# Altium schematic symbol library PCB-Tester-Board-V1.SCHLIB: 111 symbols (part 3 of 3)
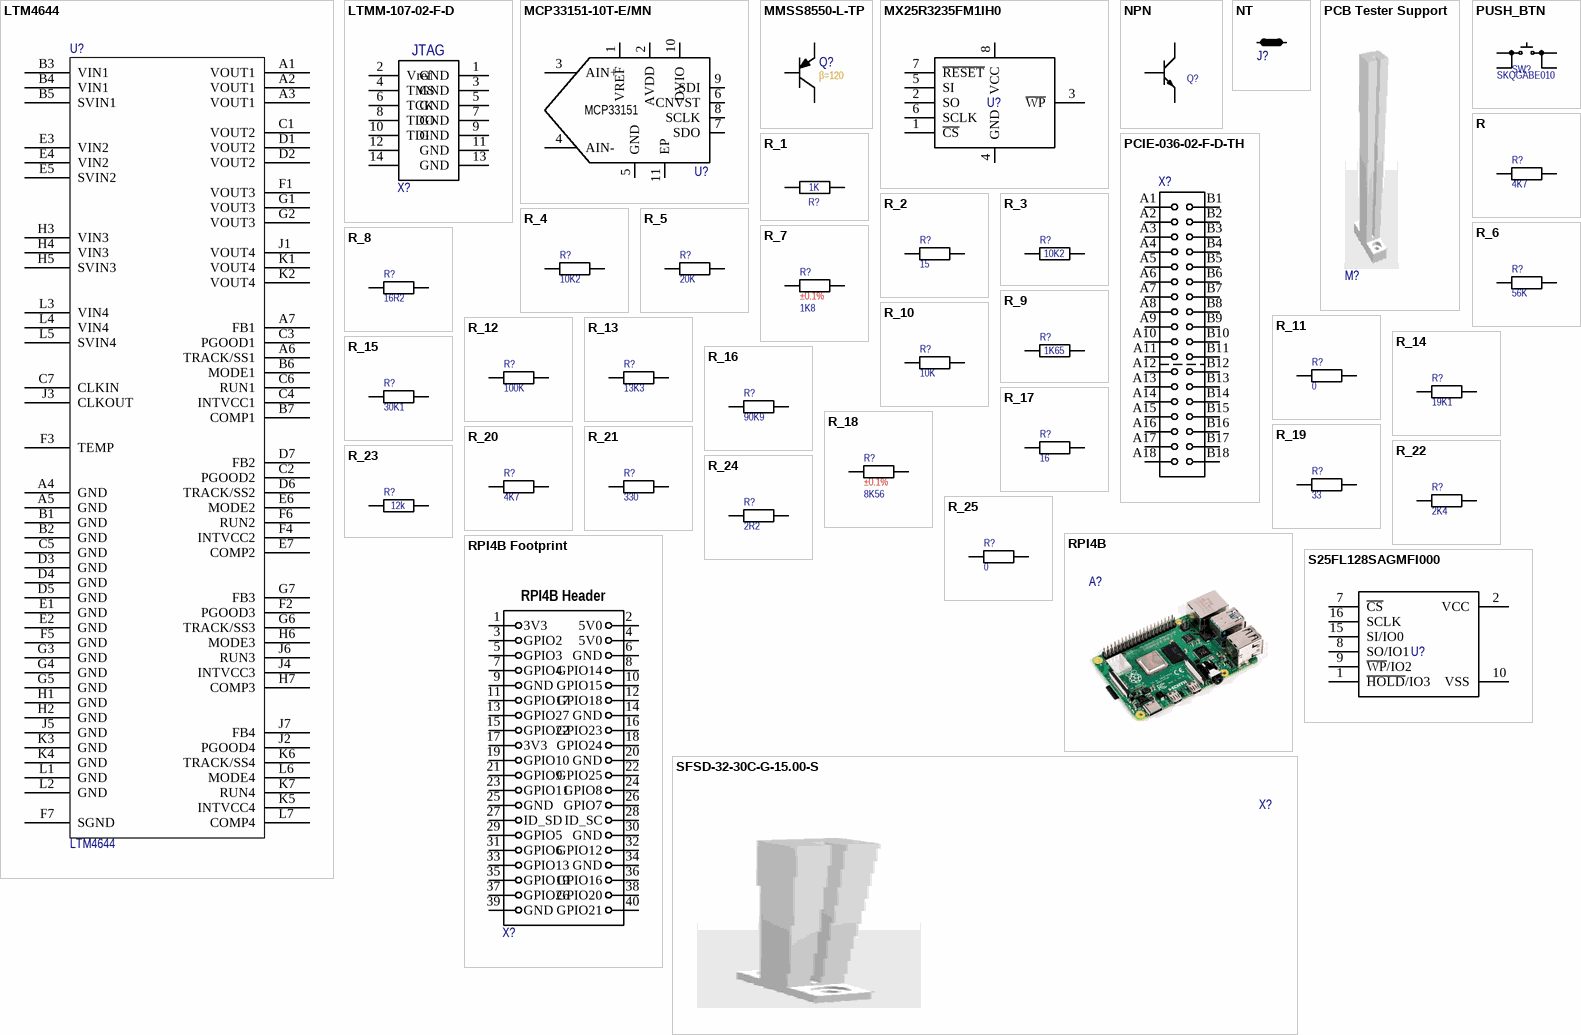
[diagram p5: symbols LTM4644 to SFSD-32-30C-G-15.00-S]

## R_19
designator R?, comment value 33  (hidden comment: R)
RES SMD 33 OHM 1% 1/16W 0402; 04. Manufacturer: Yageo; 07. Manufacturer  Part Number: RC0402FR-0733RL; 03. Unit Price: 0.09; 13. Created Date/Name: AUG2018/Hören; Power Rating: 63mW; Tolerance: ±1%; ComponentLink1URL: https://www.digikey.de/products/en?keywords=311-33.0LRDKR-ND; ComponentLink1Description: Info; 02. Distributor Part Number: 311-33.0LRDKR-ND; 09. Operating Temperature: -55°C ~ 155°C; 11. RoHS: YES; 01. Distributor: DigiKey; ComponentLink2Description: DataSheet; Type: Thick Film; Package: 0402
simulation model RESISTOR (Resistor)
signal-integrity model Res
footprint TO247-2
footprint R0201 Reflow (SMT Resistor 0201 Reflow Soldering)
footprint R0402 Reflow (SMT Resistor 0402 Reflow Soldering)
footprint R0603 Reflow (SMT Resistor 0603 Reflow Soldering)
footprint R0603 Wave (SMT Resistor 0603 Wave Soldering)
footprint R0805 Wave (SMT Resistor 0805 Wave Soldering)
footprint R0805 Reflow (SMT Resistor 0805 Reflow Soldering)
footprint R01005 Reflow (SMT Resistor 01005 Reflow Soldering)
footprint R1020 Reflow (SMT Resistor 0805 Reflow Soldering)
footprint R1020 Wave (SMT Resistor 0805 Wave Soldering)
footprint R1812 Reflow (SMT Resistor 1812 Reflow Soldering)
footprint R1812 Wave (SMT Resistor 1812 Wave Soldering)
footprint R1206 Reflow (SMT Resistor 1206 Reflow Soldering)
footprint R1206 Wave (SMT Resistor 1206 Wave Soldering)
footprint R1210 Reflow (SMT Resistor 1210 Reflow Soldering)
footprint R1210 Wave (SMT Resistor 1210 Wave Soldering)
footprint R2010 Reflow (SMT Resistor 2010 Reflow Soldering)
footprint R2010 Wave (SMT Resistor 2010 Wave Soldering)
footprint R2512 Reflow (SMT Resistor 2512 Reflow Soldering)
footprint R2512 Wave (SMT Resistor 2512 Wave Soldering)
footprint TO-220-2-Standing
pins: 1, 2
1 alternate drawing of the same symbol

## R_20
designator R?, comment value 4K7  (hidden comment: R)
RES SMD 4.7K OHM 1% 1/16W 0402; 04. Manufacturer: Yageo; 07. Manufacturer  Part Number: RC0402FR-074K7L; 03. Unit Price: 0.09; 13. Created Date/Name: AUG2018/Hören; Power Rating: 63mW; Tolerance: ±1%; ComponentLink1URL: https://www.digikey.de/products/en?keywords=311-4.7KLRDKR-ND; ComponentLink1Description: Info; 02. Distributor Part Number: 311-4.7KLRDKR-ND; 09. Operating Temperature: -55°C ~ 155°C; 11. RoHS: YES; 01. Distributor: DigiKey; ComponentLink2Description: DataSheet; Type: Thick Film; Package: 0402
simulation model RESISTOR (Resistor)
signal-integrity model Res
footprint TO247-2
footprint R0201 Reflow (SMT Resistor 0201 Reflow Soldering)
footprint R0402 Reflow (SMT Resistor 0402 Reflow Soldering)
footprint R0603 Reflow (SMT Resistor 0603 Reflow Soldering)
footprint R0603 Wave (SMT Resistor 0603 Wave Soldering)
footprint R0805 Wave (SMT Resistor 0805 Wave Soldering)
footprint R0805 Reflow (SMT Resistor 0805 Reflow Soldering)
footprint R01005 Reflow (SMT Resistor 01005 Reflow Soldering)
footprint R1020 Reflow (SMT Resistor 0805 Reflow Soldering)
footprint R1020 Wave (SMT Resistor 0805 Wave Soldering)
footprint R1812 Reflow (SMT Resistor 1812 Reflow Soldering)
footprint R1812 Wave (SMT Resistor 1812 Wave Soldering)
footprint R1206 Reflow (SMT Resistor 1206 Reflow Soldering)
footprint R1206 Wave (SMT Resistor 1206 Wave Soldering)
footprint R1210 Reflow (SMT Resistor 1210 Reflow Soldering)
footprint R1210 Wave (SMT Resistor 1210 Wave Soldering)
footprint R2010 Reflow (SMT Resistor 2010 Reflow Soldering)
footprint R2010 Wave (SMT Resistor 2010 Wave Soldering)
footprint R2512 Reflow (SMT Resistor 2512 Reflow Soldering)
footprint R2512 Wave (SMT Resistor 2512 Wave Soldering)
footprint TO-220-2-Standing
pins: 1, 2
1 alternate drawing of the same symbol

## R_21
designator R?, comment value 330  (hidden comment: R)
RES SMD 330 OHM 1% 1/16W 0402; 04. Manufacturer: Yageo; 07. Manufacturer  Part Number: RC0402FR-07330RL; 03. Unit Price: 0.09; 13. Created Date/Name: AUG2018/Hören; Power Rating: 63mW; Tolerance: ±1%; ComponentLink1URL: https://www.digikey.de/products/en?keywords=311-330LRDKR-ND; ComponentLink1Description: Info; 02. Distributor Part Number: 311-330LRDKR-ND; 09. Operating Temperature: -55°C ~ 155°C; 11. RoHS: YES; 01. Distributor: DigiKey; ComponentLink2Description: DataSheet; Type: Thick Film; Package: 0402
simulation model RESISTOR (Resistor)
signal-integrity model Res
footprint TO247-2
footprint R0201 Reflow (SMT Resistor 0201 Reflow Soldering)
footprint R0402 Reflow (SMT Resistor 0402 Reflow Soldering)
footprint R0603 Reflow (SMT Resistor 0603 Reflow Soldering)
footprint R0603 Wave (SMT Resistor 0603 Wave Soldering)
footprint R0805 Wave (SMT Resistor 0805 Wave Soldering)
footprint R0805 Reflow (SMT Resistor 0805 Reflow Soldering)
footprint R01005 Reflow (SMT Resistor 01005 Reflow Soldering)
footprint R1020 Reflow (SMT Resistor 0805 Reflow Soldering)
footprint R1020 Wave (SMT Resistor 0805 Wave Soldering)
footprint R1812 Reflow (SMT Resistor 1812 Reflow Soldering)
footprint R1812 Wave (SMT Resistor 1812 Wave Soldering)
footprint R1206 Reflow (SMT Resistor 1206 Reflow Soldering)
footprint R1206 Wave (SMT Resistor 1206 Wave Soldering)
footprint R1210 Reflow (SMT Resistor 1210 Reflow Soldering)
footprint R1210 Wave (SMT Resistor 1210 Wave Soldering)
footprint R2010 Reflow (SMT Resistor 2010 Reflow Soldering)
footprint R2010 Wave (SMT Resistor 2010 Wave Soldering)
footprint R2512 Reflow (SMT Resistor 2512 Reflow Soldering)
footprint R2512 Wave (SMT Resistor 2512 Wave Soldering)
footprint TO-220-2-Standing
pins: 1, 2
1 alternate drawing of the same symbol

## R_22
designator R?, comment value 2K4  (hidden comment: R)
RES SMD 2.4K OHM 1% 1/16W 0402; 04. Manufacturer: Yageo; 07. Manufacturer  Part Number: RC0402FR-072K4L; 03. Unit Price: 0.09; 13. Created Date/Name: AUG2018/Hören; Power Rating: 63mW; Tolerance: ±1%; ComponentLink1URL: *; ComponentLink1Description: Info; 02. Distributor Part Number: 311-2.40KLRDKR-ND; 09. Operating Temperature: -55°C ~ 155°C; 11. RoHS: YES; 01. Distributor: DigiKey; ComponentLink2Description: DataSheet; Type: Thick Film; Package: 0402
simulation model RESISTOR (Resistor)
signal-integrity model Res
footprint TO247-2
footprint R0201 Reflow (SMT Resistor 0201 Reflow Soldering)
footprint R0402 Reflow (SMT Resistor 0402 Reflow Soldering)
footprint R0603 Reflow (SMT Resistor 0603 Reflow Soldering)
footprint R0603 Wave (SMT Resistor 0603 Wave Soldering)
footprint R0805 Wave (SMT Resistor 0805 Wave Soldering)
footprint R0805 Reflow (SMT Resistor 0805 Reflow Soldering)
footprint R01005 Reflow (SMT Resistor 01005 Reflow Soldering)
footprint R1020 Reflow (SMT Resistor 0805 Reflow Soldering)
footprint R1020 Wave (SMT Resistor 0805 Wave Soldering)
footprint R1812 Reflow (SMT Resistor 1812 Reflow Soldering)
footprint R1812 Wave (SMT Resistor 1812 Wave Soldering)
footprint R1206 Reflow (SMT Resistor 1206 Reflow Soldering)
footprint R1206 Wave (SMT Resistor 1206 Wave Soldering)
footprint R1210 Reflow (SMT Resistor 1210 Reflow Soldering)
footprint R1210 Wave (SMT Resistor 1210 Wave Soldering)
footprint R2010 Reflow (SMT Resistor 2010 Reflow Soldering)
footprint R2010 Wave (SMT Resistor 2010 Wave Soldering)
footprint R2512 Reflow (SMT Resistor 2512 Reflow Soldering)
footprint R2512 Wave (SMT Resistor 2512 Wave Soldering)
footprint TO-220-2-Standing
pins: 1, 2
1 alternate drawing of the same symbol

## R_23
designator R?, comment value 12k  (hidden comment: R)
RES SMD 12K OHM 1% 1206; Tolerance: ±1%; ComponentLink1URL: *; ComponentLink1Description: Info; 11. RoHS: YES; ComponentLink2Description: DataSheet; Package: 1206
simulation model RESISTOR (Resistor)
signal-integrity model Res
footprint TO247-2
footprint R0201 Reflow (SMT Resistor 0201 Reflow Soldering)
footprint R0402 Reflow (SMT Resistor 0402 Reflow Soldering)
footprint R0603 Reflow (SMT Resistor 0603 Reflow Soldering)
footprint R0603 Wave (SMT Resistor 0603 Wave Soldering)
footprint R0805 Wave (SMT Resistor 0805 Wave Soldering)
footprint R0805 Reflow (SMT Resistor 0805 Reflow Soldering)
footprint R01005 Reflow (SMT Resistor 01005 Reflow Soldering)
footprint R1020 Reflow (SMT Resistor 0805 Reflow Soldering)
footprint R1020 Wave (SMT Resistor 0805 Wave Soldering)
footprint R1812 Reflow (SMT Resistor 1812 Reflow Soldering)
footprint R1812 Wave (SMT Resistor 1812 Wave Soldering)
footprint R1206 Reflow (SMT Resistor 1206 Reflow Soldering)
footprint R1206 Wave (SMT Resistor 1206 Wave Soldering)
footprint R1210 Reflow (SMT Resistor 1210 Reflow Soldering)
footprint R1210 Wave (SMT Resistor 1210 Wave Soldering)
footprint R2010 Reflow (SMT Resistor 2010 Reflow Soldering)
footprint R2010 Wave (SMT Resistor 2010 Wave Soldering)
footprint R2512 Reflow (SMT Resistor 2512 Reflow Soldering)
footprint R2512 Wave (SMT Resistor 2512 Wave Soldering)
footprint TO-220-2-Standing
pins: 1, 2
1 alternate drawing of the same symbol

## R_24
designator R?, comment value 2R2  (hidden comment: R)
RES SMD 2.2 OHM 1% 1/10W 0402; Power Rating: 0.1W; Tolerance: ±1%; ComponentLink1URL: https://www.digikey.de/product-detail/en/panasonic-electronic-components/ERJ-2RKF15R0X/P15.0LDKR-ND/575530; ComponentLink1Description: Info; 11. RoHS: YES; ComponentLink2Description: DataSheet; ComponentLink2URL: https://industrial.panasonic.com/cdbs/www-data/pdf/RDA0000/AOA0000C304.pdf; Package: 0402
simulation model RESISTOR (Resistor)
signal-integrity model Res
footprint TO247-2
footprint R0201 Reflow (SMT Resistor 0201 Reflow Soldering)
footprint R0402 Reflow (SMT Resistor 0402 Reflow Soldering)
footprint R0603 Reflow (SMT Resistor 0603 Reflow Soldering)
footprint R0603 Wave (SMT Resistor 0603 Wave Soldering)
footprint R0805 Wave (SMT Resistor 0805 Wave Soldering)
footprint R0805 Reflow (SMT Resistor 0805 Reflow Soldering)
footprint R01005 Reflow (SMT Resistor 01005 Reflow Soldering)
footprint R1020 Reflow (SMT Resistor 0805 Reflow Soldering)
footprint R1020 Wave (SMT Resistor 0805 Wave Soldering)
footprint R1812 Reflow (SMT Resistor 1812 Reflow Soldering)
footprint R1812 Wave (SMT Resistor 1812 Wave Soldering)
footprint R1206 Reflow (SMT Resistor 1206 Reflow Soldering)
footprint R1206 Wave (SMT Resistor 1206 Wave Soldering)
footprint R1210 Reflow (SMT Resistor 1210 Reflow Soldering)
footprint R1210 Wave (SMT Resistor 1210 Wave Soldering)
footprint R2010 Reflow (SMT Resistor 2010 Reflow Soldering)
footprint R2010 Wave (SMT Resistor 2010 Wave Soldering)
footprint R2512 Reflow (SMT Resistor 2512 Reflow Soldering)
footprint R2512 Wave (SMT Resistor 2512 Wave Soldering)
footprint TO-220-2-Standing
pins: 1, 2
1 alternate drawing of the same symbol

## R_25
designator R?, comment value 0  (hidden comment: R)
RES SMD 0 OHM JUMPER 1206; ComponentLink1URL: https://www.digikey.de/products/en?keywords=311-0.0JRDKR-ND; ComponentLink1Description: Info; 11. RoHS: YES; ComponentLink2Description: DataSheet; Package: 1206
simulation model RESISTOR (Resistor)
signal-integrity model Res
footprint TO247-2
footprint R0201 Reflow (SMT Resistor 0201 Reflow Soldering)
footprint R0402 Reflow (SMT Resistor 0402 Reflow Soldering)
footprint R0603 Reflow (SMT Resistor 0603 Reflow Soldering)
footprint R0603 Wave (SMT Resistor 0603 Wave Soldering)
footprint R0805 Wave (SMT Resistor 0805 Wave Soldering)
footprint R0805 Reflow (SMT Resistor 0805 Reflow Soldering)
footprint R01005 Reflow (SMT Resistor 01005 Reflow Soldering)
footprint R1020 Reflow (SMT Resistor 0805 Reflow Soldering)
footprint R1020 Wave (SMT Resistor 0805 Wave Soldering)
footprint R1812 Reflow (SMT Resistor 1812 Reflow Soldering)
footprint R1812 Wave (SMT Resistor 1812 Wave Soldering)
footprint R1206 Reflow (SMT Resistor 1206 Reflow Soldering)
footprint R1206 Wave (SMT Resistor 1206 Wave Soldering)
footprint R1210 Reflow (SMT Resistor 1210 Reflow Soldering)
footprint R1210 Wave (SMT Resistor 1210 Wave Soldering)
footprint R2010 Reflow (SMT Resistor 2010 Reflow Soldering)
footprint R2010 Wave (SMT Resistor 2010 Wave Soldering)
footprint R2512 Reflow (SMT Resistor 2512 Reflow Soldering)
footprint R2512 Wave (SMT Resistor 2512 Wave Soldering)
footprint TO-220-2-Standing
pins: 1, 2
1 alternate drawing of the same symbol

## RPI4B
designator A?, comment A  (value not drawn)
RASPBERRY PI 4 MODEL B 4GB SDRAM; 03. Unit Price: 60.53; 13. Created Date/Name: ??? / Hören; 01. Distributor: DigiKey; 02. Distributor Part Number: 1690-RASPBERRYPI4B/4GB-ND; 04. Manufacturer: Raspberry Pi; ComponentLink1Description: Info; ComponentLink1URL: https://www.digikey.de/products/en/development-boards-kits-programmers/evaluation-boards-embedded-mcu-dsp/786?k=Raspberry&k=&pkeyword=Raspberry&sv=0&pv1742=392511&sf=0&FV=-8%7C786&quantity=&ColumnSort=0&page=1&pageSize=25; ComponentLink2Description: DataSheet; ComponentLink2URL: https://www.raspberrypi.org/documentation/hardware/raspberrypi/bcm2711/rpi_DATA_2711_1p0_preliminary.pdf
footprint RPI4B (Raspberry Pi 4B)

## RPI4B Footprint
designator X?, comment X  (value not drawn)
40 Position Elevated Socket Connector  Through Hole; 04. Manufacturer: Samtec Inc.; 03. Unit Price: 5.34; 13. Created Date/Name: ??? / Hören; 01. Distributor: Samtec; 02. Distributor Part Number: ESW-120-23-L-D-LL; ComponentLink1Description: Info; ComponentLink1URL: https://www.samtec.com/products/esw-120-23-l-d-ll; ComponentLink2Description: DataSheet; ComponentLink2URL: http://suddendocs.samtec.com/catalog_english/esw_th.pdf; System: Connector
footprint RPI4B Footprint (Footprint for Raspberry Pi 4B)
pins: 1 3V3, 2 5V0, 3 GPIO2, 4 5V0, 5 GPIO3, 6 GND, 7 GPIO4, 8 GPIO14, 9 GND, 10 GPIO15, 11 GPIO17, 12 GPIO18, 13 GPIO27, 14 GND, 15 GPIO22, 16 GPIO23, 17 3V3, 18 GPIO24, 19 GPIO10, 20 GND, 21 GPIO9, 22 GPIO25, 23 GPIO11, 24 GPIO8, 25 GND, 26 GPIO7, 27 ID_SD, 28 ID_SC, 29 GPIO5, 30 GND, 31 GPIO6, 32 GPIO12, 33 GPIO13, 34 GND, 35 GPIO19, 36 GPIO16, 37 GPIO26, 38 GPIO20, 39 GND, 40 GPIO21
text: RPI4B Header

## S25FL128SAGMFI000
designator U?, comment U  (value not drawn)
IC FLASH 128M SPI 133MHZ 16SOIC; 04. Manufacturer: Cypress Semiconductor Corp; NickName: S25FL128SAGMFI000; 01. Distributor: Digikey; 02. Distributor Part Number: 1274-1000-ND; 07. Manufacturer  Part Number: IC FLASH 128M SPI 133MHZ 16SOIC; ComponentLink2Description: DataSheet
footprint SOICW-16 (16-lead wide SOIC package)
pins: 1 ~{HOLD}/IO3, 2 VCC, 7 ~{CS}, 8 SO/IO1, 9 ~{WP}/IO2, 10 VSS, 15 SI/IO0, 16 SCLK

## SFSD-32-30C-G-15.00-S
designator X?, comment X  (value not drawn)
32 x 2 x 1.27mm SOCKET DISCRETE CABL COLORED; 04. Manufacturer: Samtec Inc.; 07. Manufacturer  Part Number: SFSD-32-30C-G-15.00-S; 03. Unit Price: 10; 13. Created Date/Name: ??? / Hören; 01. Distributor: Samtec Inc.; 02. Distributor Part Number: SFSD-32-30C-G-15.00-S; 11. RoHS: YES; ComponentLink1Description: Info; ComponentLink1URL: https://www.samtec.com/products/sfsd-24-30c-g-15.00-s; ComponentLink2Description: DataSheet

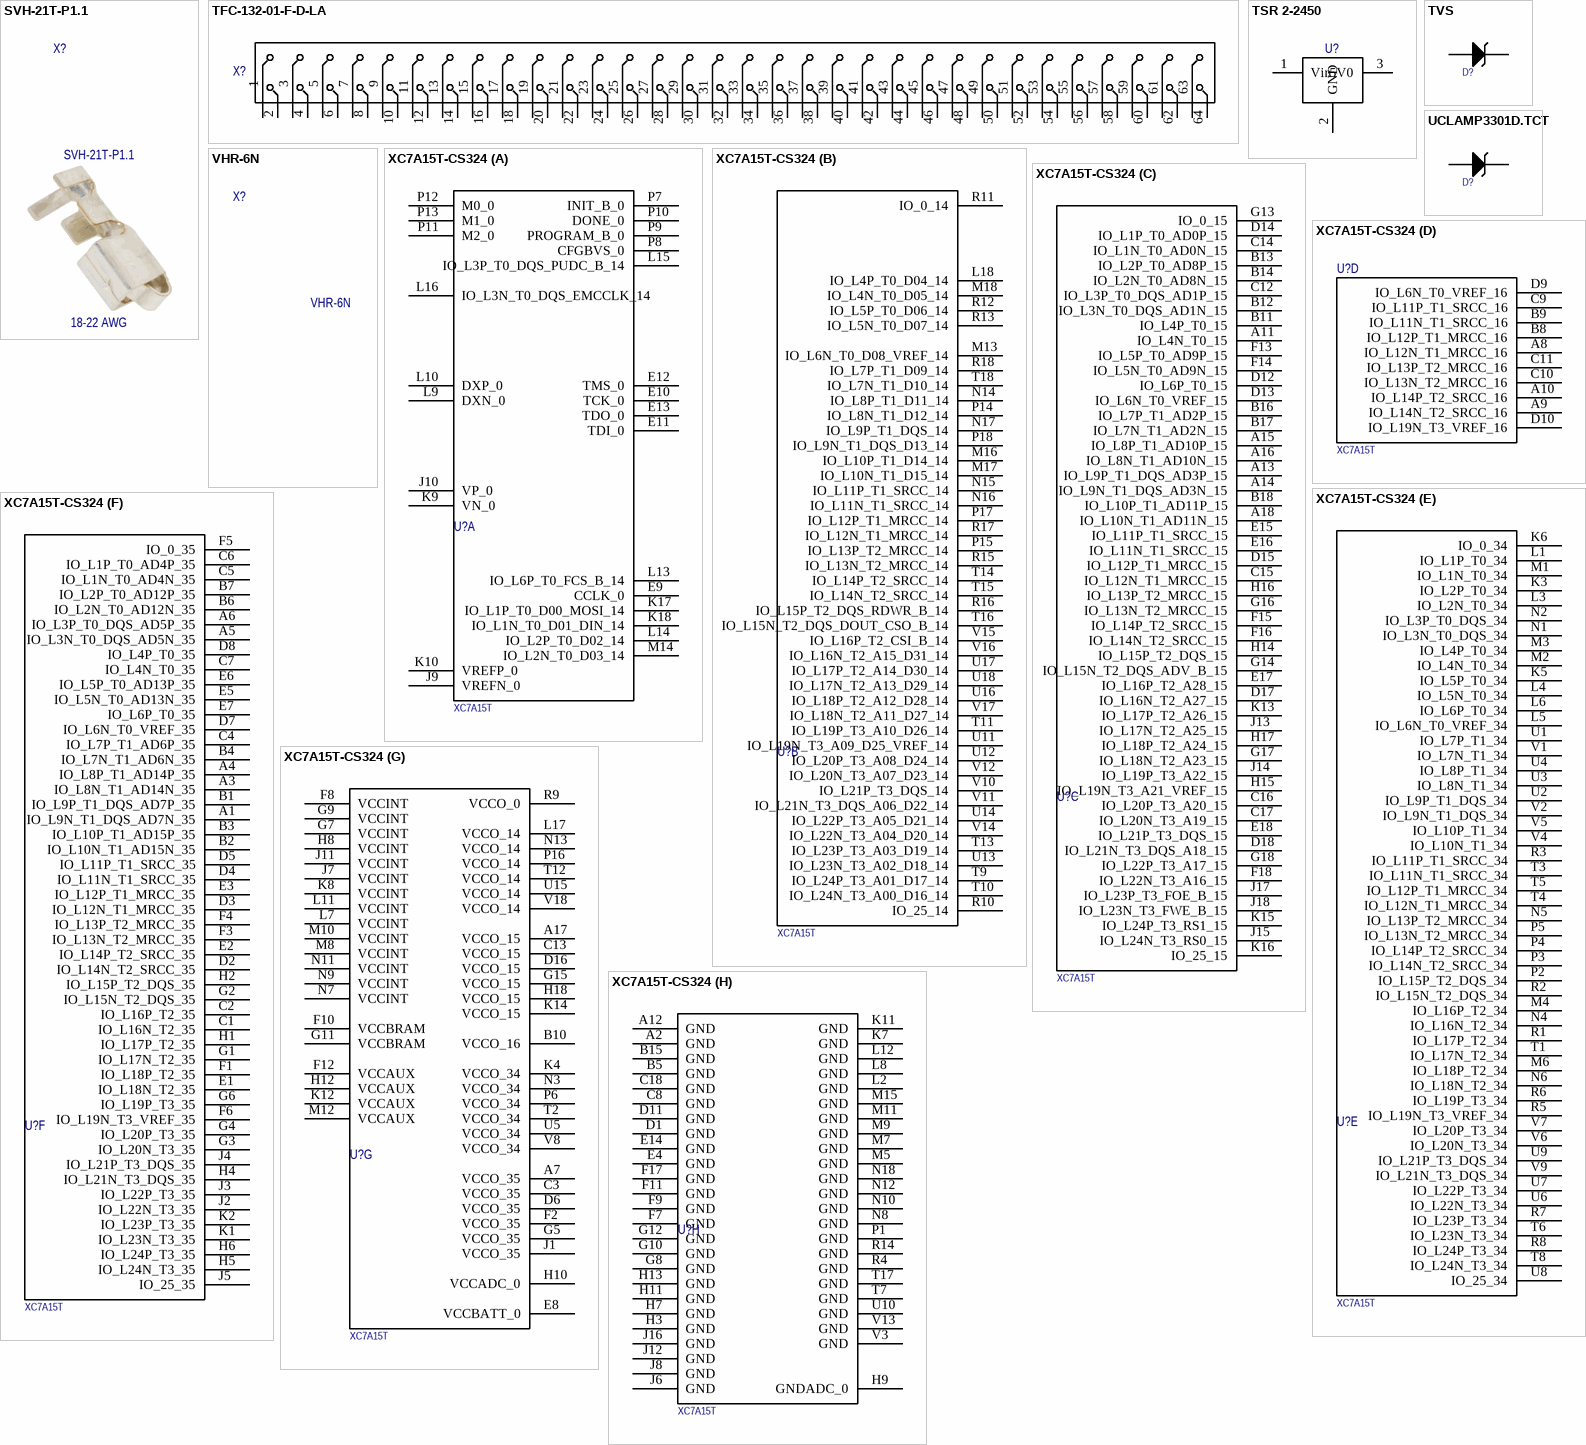
[diagram p3: symbols SVH-21T-P1.1 to XC7A15T-CS324]

## SVH-21T-P1.1
designator X?  Package: 18-22 AWG  (hidden comment: SVH-21T-P1.1)
Socket Contact Tin 18-22 AWG Crimp; 04. Manufacturer: JST Sales America Inc.; 03. Unit Price: 0.1; 13. Created Date/Name: AUG 2018 / Hören; 01. Distributor: DigiKey; 02. Distributor Part Number: 455-1133-1-ND; 11. RoHS: YES; ComponentLink1Description: Info; ComponentLink1URL: https://www.digikey.de/product-detail/en/jst-sales-america-inc/SVH-21T-P1-1/455-1133-1-ND/527367; ComponentLink2Description: DataSheet; ComponentLink2URL: http://www.jst-mfg.com/product/pdf/eng/eVH.pdf; 07. Manufacturer  Part Number: SVH-21T-P1.1

## TFC-132-01-F-D-LA
designator X?, comment X  (value not drawn)
CONN HEADER TH RA 48POS 1.27MM; 04. Manufacturer: Samtec Inc.; 07. Manufacturer  Part Number: TFC-132-01-F-D-LA; 03. Unit Price: 5; 13. Created Date/Name: ??? / Hören; System: Connector; 01. Distributor: Samtec Inc.; 02. Distributor Part Number: TFC-132-01-F-D-LA; 11. RoHS: YES; ComponentLink1Description: Info; ComponentLink1URL: https://www.samtec.com/products/tfc-124-01-f-d-ra; ComponentLink2Description: DataSheet
footprint TFC-132-01-F-D-LA (64 pin box header right angled)
pins: 1, 2, 3, 4, 5, 6, 7, 8, 9, 10, 11, 12, 13, 14, 15, 16, 17, 18, 19, 20, 21, 22, 23, 24, 25, 26, 27, 28, 29, 30, 31, 32, 33, 34, 35, 36, 37, 38, 39, 40, 41, 42, 43, 44, 45, 46, 47, 48, 49, 50, 51, 52, 53, 54, 55, 56, 57, 58, 59, 60, 61, 62, 63, 64

## TSR 2-2450
designator U?, comment U  (value not drawn)
DC DC CONVERTER 5V 10W; 04. Manufacturer: Traco Power; 07. Manufacturer  Part Number: TSR 2-2450; 03. Unit Price: 11.31; 13. Created Date/Name: AUG 2018 / Hören; 01. Distributor: DigiKey; 02. Distributor Part Number: 1951-2692-ND; 11. RoHS: YES; ComponentLink1Description: Info; ComponentLink1URL: https://www.digikey.de/products/en/power-supplies-board-mount/dc-dc-converters/922?k=TSR2&k=&pkeyword=TSR2&sv=0&pv1525=249171&sf=0&FV=-8%7C922&quantity=&ColumnSort=0&page=1&pageSize=25; ComponentLink2Description: DataSheet; ComponentLink2URL: https://www.tracopower.com/products/tsr2.pdf; Package: 3SIP
footprint 3SIP Traco (Traco (1951-2692-ND))
pins: 1 Vin, 2 GND, 3 5V0

## TVS
designator D?, comment D  (value not drawn)
TVS; 11. RoHS: YES; ComponentLink1Description: Info; ComponentLink1URL: https://www.digikey.de/product-detail/en/nexperia-usa-inc/PMEG4050EP115/1727-5842-6-ND/2697559; ComponentLink2Description: DataSheet; ComponentLink2URL: https://assets.nexperia.com/documents/data-sheet/PMEG4050EP.pdf
footprint SOD123
pins: 1 A, 2 C

## UCLAMP3301D.TCT
designator D?, comment D  (value not drawn)
TVS UCLAMP3301D.TCT; 07. Manufacturer  Part Number: UCLAMP3301D.TCT; 11. RoHS: YES; ComponentLink1Description: Info; ComponentLink1URL: https://www.digikey.de/product-detail/en/nexperia-usa-inc/PMEG4050EP115/1727-5842-6-ND/2697559; ComponentLink2Description: DataSheet; ComponentLink2URL: https://assets.nexperia.com/documents/data-sheet/PMEG4050EP.pdf
footprint SOD323
pins: 1 A, 2 C

## VHR-6N
designator X?
6 Rectangular Connectors - Housings Receptacle Natural 0.156" (3.96mm); 04. Manufacturer: JST Sales America Inc.; 03. Unit Price: 0.18; 13. Created Date/Name: AUG 2018 / Hören; 01. Distributor: DigiKey; 02. Distributor Part Number: 455-1187-ND; 11. RoHS: YES; ComponentLink1Description: Info; ComponentLink1URL: https://www.digikey.de/products/en?keywords=VHR-6N; ComponentLink2Description: DataSheet; ComponentLink2URL: http://www.jst-mfg.com/product/pdf/eng/eVH.pdf; 07. Manufacturer  Part Number: VHR-6N

## XC7A15T-CS324
designator U?, comment NicName: XC7A15T  (hidden comment: U)
XC7A15T-1CSG324C; MFR-PN: XC7A15T-CS324; MFR: XILINX; POPULATED: yes; 03. Unit Price: 20.65; 04. Manufacturer: XILINX; 07. Manufacturer  Part Number: XC7A15T-1CSG324C; 01. Distributor: Avnet; 02. Distributor Part Number: XC7A15T-1CSG324C; 09. Operating Temperature: 0°C ~ 85°C (TJ); 11. RoHS: YES; ComponentLink4Description: Info; ComponentLink4URL: https://www.digikey.de/products/en?keywords=XC7A15T-1CSG324C; ComponentLink5Description: DataSheet; ComponentLink5URL: https://www.xilinx.com/support/documentation/data_sheets/ds181_Artix_7_Data_Sheet.pdf; ComponentLink6Description: NXP; ComponentLink6URL: https://www.nxp.com/part/MK20DN512VMD10
footprint XC7A15T-1CSG324C (BGA, 324-Leads, Body 15.00x15.00mmx1.50mm, Pitch 0.80mm)
part A pins: E9 CCLK_0, E10 TCK_0, E11 TDI_0, E12 TMS_0, E13 TDO_0, J9 VREFN_0, J10 VP_0, K9 VN_0, K10 VREFP_0, K17 IO_L1P_T0_D00_MOSI_14, K18 IO_L1N_T0_D01_DIN_14, L9 DXN_0, L10 DXP_0, L13 IO_L6P_T0_FCS_B_14, L14 IO_L2P_T0_D02_14, L15 IO_L3P_T0_DQS_PUDC_B_14, L16 IO_L3N_T0_DQS_EMCCLK_14, M14 IO_L2N_T0_D03_14, P7 INIT_B_0, P8 CFGBVS_0, P9 PROGRAM_B_0, P10 DONE_0, P11 M2_0, P12 M0_0, P13 M1_0
part B pins: L18 IO_L4P_T0_D04_14, M13 IO_L6N_T0_D08_VREF_14, M16 IO_L10P_T1_D14_14, M17 IO_L10N_T1_D15_14, M18 IO_L4N_T0_D05_14, N14 IO_L8P_T1_D11_14, N15 IO_L11P_T1_SRCC_14, N16 IO_L11N_T1_SRCC_14, N17 IO_L9P_T1_DQS_14, P14 IO_L8N_T1_D12_14, P15 IO_L13P_T2_MRCC_14, P17 IO_L12P_T1_MRCC_14, P18 IO_L9N_T1_DQS_D13_14, R10 IO_25_14, R11 IO_0_14, R12 IO_L5P_T0_D06_14, R13 IO_L5N_T0_D07_14, R15 IO_L13N_T2_MRCC_14, R16 IO_L15P_T2_DQS_RDWR_B_14, R17 IO_L12N_T1_MRCC_14, R18 IO_L7P_T1_D09_14, T9 IO_L24P_T3_A01_D17_14, T10 IO_L24N_T3_A00_D16_14, T11 IO_L19P_T3_A10_D26_14, T13 IO_L23P_T3_A03_D19_14, T14 IO_L14P_T2_SRCC_14, T15 IO_L14N_T2_SRCC_14, T16 IO_L15N_T2_DQS_DOUT_CSO_B_14, T18 IO_L7N_T1_D10_14, U11 IO_L19N_T3_A09_D25_VREF_14, U12 IO_L20P_T3_A08_D24_14, U13 IO_L23N_T3_A02_D18_14, U14 IO_L22P_T3_A05_D21_14, U16 IO_L18P_T2_A12_D28_14, U17 IO_L17P_T2_A14_D30_14, U18 IO_L17N_T2_A13_D29_14, V10 IO_L21P_T3_DQS_14, V11 IO_L21N_T3_DQS_A06_D22_14, V12 IO_L20N_T3_A07_D23_14, V14 IO_L22N_T3_A04_D20_14, V15 IO_L16P_T2_CSI_B_14, V16 IO_L16N_T2_A15_D31_14, V17 IO_L18N_T2_A11_D27_14
part C pins: A11 IO_L4N_T0_15, A13 IO_L9P_T1_DQS_AD3P_15, A14 IO_L9N_T1_DQS_AD3N_15, A15 IO_L8P_T1_AD10P_15, A16 IO_L8N_T1_AD10N_15, A18 IO_L10N_T1_AD11N_15, B11 IO_L4P_T0_15, B12 IO_L3N_T0_DQS_AD1N_15, B13 IO_L2P_T0_AD8P_15, B14 IO_L2N_T0_AD8N_15, B16 IO_L7P_T1_AD2P_15, B17 IO_L7N_T1_AD2N_15, B18 IO_L10P_T1_AD11P_15, C12 IO_L3P_T0_DQS_AD1P_15, C14 IO_L1N_T0_AD0N_15, C15 IO_L12N_T1_MRCC_15, C16 IO_L20P_T3_A20_15, C17 IO_L20N_T3_A19_15, D12 IO_L6P_T0_15, D13 IO_L6N_T0_VREF_15, D14 IO_L1P_T0_AD0P_15, D15 IO_L12P_T1_MRCC_15, D17 IO_L16N_T2_A27_15, D18 IO_L21N_T3_DQS_A18_15, E15 IO_L11P_T1_SRCC_15, E16 IO_L11N_T1_SRCC_15, E17 IO_L16P_T2_A28_15, E18 IO_L21P_T3_DQS_15, F13 IO_L5P_T0_AD9P_15, F14 IO_L5N_T0_AD9N_15, F15 IO_L14P_T2_SRCC_15, F16 IO_L14N_T2_SRCC_15, F18 IO_L22N_T3_A16_15, G13 IO_0_15, G14 IO_L15N_T2_DQS_ADV_B_15, G16 IO_L13N_T2_MRCC_15, G17 IO_L18N_T2_A23_15, G18 IO_L22P_T3_A17_15, H14 IO_L15P_T2_DQS_15, H15 IO_L19N_T3_A21_VREF_15, H16 IO_L13P_T2_MRCC_15, H17 IO_L18P_T2_A24_15, J13 IO_L17N_T2_A25_15, J14 IO_L19P_T3_A22_15, J15 IO_L24N_T3_RS0_15, J17 IO_L23P_T3_FOE_B_15, J18 IO_L23N_T3_FWE_B_15, K13 IO_L17P_T2_A26_15, K15 IO_L24P_T3_RS1_15, K16 IO_25_15
part D pins: A8 IO_L12N_T1_MRCC_16, A9 IO_L14N_T2_SRCC_16, A10 IO_L14P_T2_SRCC_16, B8 IO_L12P_T1_MRCC_16, B9 IO_L11N_T1_SRCC_16, C9 IO_L11P_T1_SRCC_16, C10 IO_L13N_T2_MRCC_16, C11 IO_L13P_T2_MRCC_16, D9 IO_L6N_T0_VREF_16, D10 IO_L19N_T3_VREF_16
part E pins: K3 IO_L2P_T0_34, K5 IO_L5P_T0_34, K6 IO_0_34, L1 IO_L1P_T0_34, L3 IO_L2N_T0_34, L4 IO_L5N_T0_34, L5 IO_L6N_T0_VREF_34, L6 IO_L6P_T0_34, M1 IO_L1N_T0_34, M2 IO_L4N_T0_34, M3 IO_L4P_T0_34, M4 IO_L16P_T2_34, M6 IO_L18P_T2_34, N1 IO_L3N_T0_DQS_34, N2 IO_L3P_T0_DQS_34, N4 IO_L16N_T2_34, N5 IO_L13P_T2_MRCC_34, N6 IO_L18N_T2_34, P2 IO_L15P_T2_DQS_34, P3 IO_L14N_T2_SRCC_34, P4 IO_L14P_T2_SRCC_34, P5 IO_L13N_T2_MRCC_34, R1 IO_L17P_T2_34, R2 IO_L15N_T2_DQS_34, R3 IO_L11P_T1_SRCC_34, R5 IO_L19N_T3_VREF_34, R6 IO_L19P_T3_34, R7 IO_L23P_T3_34, R8 IO_L24P_T3_34, T1 IO_L17N_T2_34, T3 IO_L11N_T1_SRCC_34, T4 IO_L12N_T1_MRCC_34, T5 IO_L12P_T1_MRCC_34, T6 IO_L23N_T3_34, T8 IO_L24N_T3_34, U1 IO_L7P_T1_34, U2 IO_L9P_T1_DQS_34, U3 IO_L8N_T1_34, U4 IO_L8P_T1_34, U6 IO_L22N_T3_34, U7 IO_L22P_T3_34, U8 IO_25_34, U9 IO_L21P_T3_DQS_34, V1 IO_L7N_T1_34, V2 IO_L9N_T1_DQS_34, V4 IO_L10N_T1_34, V5 IO_L10P_T1_34, V6 IO_L20N_T3_34, V7 IO_L20P_T3_34, V9 IO_L21N_T3_DQS_34
part F pins: A1 IO_L9N_T1_DQS_AD7N_35, A3 IO_L8N_T1_AD14N_35, A4 IO_L8P_T1_AD14P_35, A5 IO_L3N_T0_DQS_AD5N_35, A6 IO_L3P_T0_DQS_AD5P_35, B1 IO_L9P_T1_DQS_AD7P_35, B2 IO_L10N_T1_AD15N_35, B3 IO_L10P_T1_AD15P_35, B4 IO_L7N_T1_AD6N_35, B6 IO_L2N_T0_AD12N_35, B7 IO_L2P_T0_AD12P_35, C1 IO_L16N_T2_35, C2 IO_L16P_T2_35, C4 IO_L7P_T1_AD6P_35, C5 IO_L1N_T0_AD4N_35, C6 IO_L1P_T0_AD4P_35, C7 IO_L4N_T0_35, D2 IO_L14N_T2_SRCC_35, D3 IO_L12N_T1_MRCC_35, D4 IO_L11N_T1_SRCC_35, D5 IO_L11P_T1_SRCC_35, D7 IO_L6N_T0_VREF_35, D8 IO_L4P_T0_35, E1 IO_L18N_T2_35, E2 IO_L14P_T2_SRCC_35, E3 IO_L12P_T1_MRCC_35, E5 IO_L5N_T0_AD13N_35, E6 IO_L5P_T0_AD13P_35, E7 IO_L6P_T0_35, F1 IO_L18P_T2_35, F3 IO_L13N_T2_MRCC_35, F4 IO_L13P_T2_MRCC_35, F5 IO_0_35, F6 IO_L19N_T3_VREF_35, G1 IO_L17N_T2_35, G2 IO_L15N_T2_DQS_35, G3 IO_L20N_T3_35, G4 IO_L20P_T3_35, G6 IO_L19P_T3_35, H1 IO_L17P_T2_35, H2 IO_L15P_T2_DQS_35, H4 IO_L21N_T3_DQS_35, H5 IO_L24N_T3_35, H6 IO_L24P_T3_35, J2 IO_L22N_T3_35, J3 IO_L22P_T3_35, J4 IO_L21P_T3_DQS_35, J5 IO_25_35, K1 IO_L23N_T3_35, K2 IO_L23P_T3_35
part G pins: A7 VCCO_35, A17 VCCO_15, B10 VCCO_16, C3 VCCO_35, C13 VCCO_15, D6 VCCO_35, D16 VCCO_15, E8 VCCBATT_0, F2 VCCO_35, F8 VCCINT, F10 VCCBRAM, F12 VCCAUX, G5 VCCO_35, G7 VCCINT, G9 VCCINT, G11 VCCBRAM, G15 VCCO_15, H8 VCCINT, H10 VCCADC_0, H12 VCCAUX, H18 VCCO_15, J1 VCCO_35, J7 VCCINT, J11 VCCINT, K4 VCCO_34, K8 VCCINT, K12 VCCAUX, K14 VCCO_15, L7 VCCINT, L11 VCCINT, L17 VCCO_14, M8 VCCINT, M10 VCCINT, M12 VCCAUX, N3 VCCO_34, N7 VCCINT, N9 VCCINT, N11 VCCINT, N13 VCCO_14, P6 VCCO_34, P16 VCCO_14, R9 VCCO_0, T2 VCCO_34, T12 VCCO_14, U5 VCCO_34, U15 VCCO_14, V8 VCCO_34, V18 VCCO_14
part H pins: A2 GND (power), A12 GND (power), B5 GND (power), B15 GND (power), C8 GND (power), C18 GND (power), D1 GND (power), D11 GND (power), E4 GND (power), E14 GND (power), F7 GND (power), F9 GND (power), F11 GND (power), F17 GND (power), G8 GND (power), G10 GND (power), G12 GND (power), H3 GND (power), H7 GND (power), H9 GNDADC_0 (power), H11 GND (power), H13 GND (power), J6 GND (power), J8 GND (power), J12 GND (power), J16 GND (power), K7 GND (power), K11 GND (power), L2 GND (power), L8 GND (power), L12 GND (power), M5 GND (power), M7 GND (power), M9 GND (power), M11 GND (power), M15 GND (power), N8 GND (power), N10 GND (power), N12 GND (power), N18 GND (power), P1 GND (power), R4 GND (power), R14 GND (power), T7 GND (power), T17 GND (power), U10 GND (power), V3 GND (power), V13 GND (power)